# Altium footprint library Header.PcbLib: 115 footprints (part 8 of 8)
Each footprint in its own frame and in the unit in brackets; x right, y up, seen from the top. Pads: shape width x height; smd on the part's side, far side on the other; paste and mask are expansions set on the pad; w line width, h text height; cw(c..) or ccw(c..) is an arc to the next point about the centre after c.
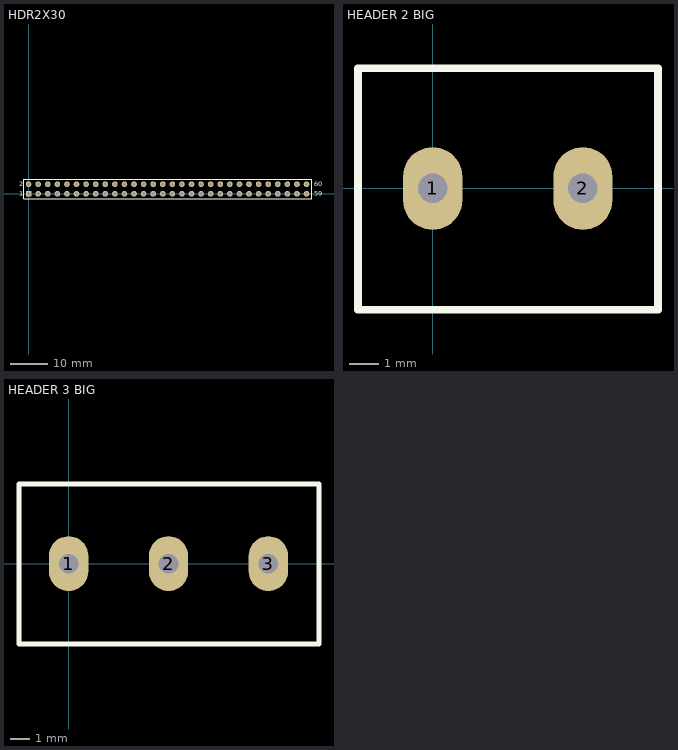
[diagram p7: the footprints below, top view; thin cyan lines are the x and y axes]

## HDR2X30 [mm] "Connector; Header; 30x2 Position"
pads (60):
  rect 1.5x1.5 hole 0.9: 1(0,0)
  round 1.5 hole 0.9: 2(0,2.54) 3(2.54,0) 4(2.54,2.54) 5(5.08,0) 6(5.08,2.54) 7(7.62,0) 8(7.62,2.54) 9(10.16,0) 10(10.16,2.54) 11(12.7,0) 12(12.7,2.54) 13(15.24,0) 14(15.24,2.54) 15(17.78,0) 16(17.78,2.54) 17(20.32,0) 18(20.32,2.54) 19(22.86,0) 20(22.86,2.54) 21(25.4,0) 22(25.4,2.54) 23(27.94,0) 24(27.94,2.54) 25(30.48,0) 26(30.48,2.54) 27(33.02,0) 28(33.02,2.54) 29(35.56,0) 30(35.56,2.54) 31(38.1,0) 32(38.1,2.54) 33(40.64,0) 34(40.64,2.54) 35(43.18,0) 36(43.18,2.54) 37(45.72,0) 38(45.72,2.54) 39(48.26,0) 40(48.26,2.54) 41(50.8,0) 42(50.8,2.54) 43(53.34,0) 44(53.34,2.54) 45(55.88,0) 46(55.88,2.54) 47(58.42,0) 48(58.42,2.54) 49(60.96,0) 50(60.96,2.54) 51(63.5,0) 52(63.5,2.54) 53(66.04,0) 54(66.04,2.54) 55(68.58,0) 56(68.58,2.54) 57(71.12,0) 58(71.12,2.54) 59(73.66,0) 60(73.66,2.54)
Top Overlay:
  lines w0.2: -1.27,-1.27 -1.27,3.81 75.06,3.81 75.06,-1.27 -1.27,-1.27
  text "2" at -2.54,2.032 h1.27
  text "1" at -2.54,-0.508 h1.27
  text "59" at 75.692,-0.508 h1.27
  text "60" at 75.692,2.032 h1.27
Bottom Overlay:
  text "1" at -55.88,-0.508 h1.27
3D body: height 1.5, standoff 0, extent 24.13,1.27 26.67,3.81
3D body: height 1.5, standoff 0, extent 24.13,-1.27 26.67,1.27
3D body: height 1.5, standoff 0, extent 21.59,1.27 24.13,3.81
3D body: height 1.5, standoff 0, extent 21.59,-1.27 24.13,1.27
3D body: height 1.5, standoff 0, extent 19.05,1.27 21.59,3.81
3D body: height 1.5, standoff 0, extent 19.05,-1.27 21.59,1.27
3D body: height 1.5, standoff 0, extent 16.51,1.27 19.05,3.81
3D body: height 1.5, standoff 0, extent 16.51,-1.27 19.05,1.27
3D body: height 1.5, standoff 0, extent 13.97,1.27 16.51,3.81
3D body: height 1.5, standoff 0, extent 13.97,-1.27 16.51,1.27
3D body: height 1.5, standoff 0, extent 11.43,1.27 13.97,3.81
3D body: height 1.5, standoff 0, extent 11.43,-1.27 13.97,1.27
3D body: height 1.5, standoff 0, extent 8.89,1.27 11.43,3.81
3D body: height 1.5, standoff 0, extent 8.89,-1.27 11.43,1.27
3D body: height 1.5, standoff 0, extent 6.35,1.27 8.89,3.81
3D body: height 1.5, standoff 0, extent 6.35,-1.27 8.89,1.27
3D body: height 1.5, standoff 0, extent 3.81,1.27 6.35,3.81
3D body: height 1.5, standoff 0, extent 3.81,-1.27 6.35,1.27
3D body: height 1.5, standoff 0, extent 1.27,1.27 3.81,3.81
3D body: height 1.5, standoff 0, extent 1.27,-1.27 3.81,1.27
3D body: height 1.5, standoff 0, extent -1.27,1.27 1.27,3.81
3D body: height 1.5, standoff 0, extent -1.27,-1.27 1.27,1.27
3D body: height 1.5, standoff 0, extent 52.07,1.27 54.61,3.81
3D body: height 1.5, standoff 0, extent 52.07,-1.27 54.61,1.27
3D body: height 1.5, standoff 0, extent 49.53,1.27 52.07,3.81
3D body: height 1.5, standoff 0, extent 49.53,-1.27 52.07,1.27
3D body: height 1.5, standoff 0, extent 46.99,1.27 49.53,3.81
3D body: height 1.5, standoff 0, extent 46.99,-1.27 49.53,1.27
3D body: height 1.5, standoff 0, extent 44.45,1.27 46.99,3.81
3D body: height 1.5, standoff 0, extent 44.45,-1.27 46.99,1.27
3D body: height 1.5, standoff 0, extent 41.91,1.27 44.45,3.81
3D body: height 1.5, standoff 0, extent 41.91,-1.27 44.45,1.27
3D body: height 1.5, standoff 0, extent 39.37,1.27 41.91,3.81
3D body: height 1.5, standoff 0, extent 39.37,-1.27 41.91,1.27
3D body: height 1.5, standoff 0, extent 36.83,1.27 39.37,3.81
3D body: height 1.5, standoff 0, extent 36.83,-1.27 39.37,1.27
3D body: height 1.5, standoff 0, extent 34.29,1.27 36.83,3.81
3D body: height 1.5, standoff 0, extent 34.29,-1.27 36.83,1.27
3D body: height 1.5, standoff 0, extent 31.75,1.27 34.29,3.81
3D body: height 1.5, standoff 0, extent 31.75,-1.27 34.29,1.27
3D body: height 1.5, standoff 0, extent 29.21,1.27 31.75,3.81
3D body: height 1.5, standoff 0, extent 29.21,-1.27 31.75,1.27
3D body: height 1.5, standoff 0, extent 26.67,1.27 29.21,3.81
3D body: height 1.5, standoff 0, extent 26.67,-1.27 29.21,1.27
3D body: height 1.5, standoff 0, extent 72.39,1.27 74.93,3.81
3D body: height 1.5, standoff 0, extent 72.39,-1.27 74.93,1.27
3D body: height 1.5, standoff 0, extent 69.85,1.27 72.39,3.81
3D body: height 1.5, standoff 0, extent 69.85,-1.27 72.39,1.27
3D body: height 1.5, standoff 0, extent 67.31,1.27 69.85,3.81
3D body: height 1.5, standoff 0, extent 67.31,-1.27 69.85,1.27
3D body: height 1.5, standoff 0, extent 64.77,1.27 67.31,3.81
3D body: height 1.5, standoff 0, extent 64.77,-1.27 67.31,1.27
3D body: height 1.5, standoff 0, extent 62.23,1.27 64.77,3.81
3D body: height 1.5, standoff 0, extent 62.23,-1.27 64.77,1.27
3D body: height 1.5, standoff 0, extent 59.69,1.27 62.23,3.81
3D body: height 1.5, standoff 0, extent 59.69,-1.27 62.23,1.27
3D body: height 1.5, standoff 0, extent 57.15,1.27 59.69,3.81
3D body: height 1.5, standoff 0, extent 57.15,-1.27 59.69,1.27
3D body: height 1.5, standoff 0, extent 54.61,1.27 57.15,3.81
3D body: height 1.5, standoff 0, extent 54.61,-1.27 57.15,1.27

## HEADER 2 BIG [mm]
pads (2):
  oval 2x2.8 hole 1: 1(0,0) 2(5.08,0)
Top Overlay:
  lines w0.254: -2.527,-4.102 7.62,-4.102 7.62,4.064 -2.527,4.064 -2.527,-4.102

## HEADER 3 BIG [mm]
pads (3):
  oval 2x2.8 hole 1: 1(0,0) 2(5.08,0) 3(10.16,0)
Top Overlay:
  lines w0.254: -2.527,-4.102 -2.527,4.064 12.738,4.064 12.738,-4.102 -2.527,-4.102